# Altium schematic symbol library WE-SL3.SchLib: 5 symbols
Pins are listed as number, name and electrical type; pins without a type are passive.

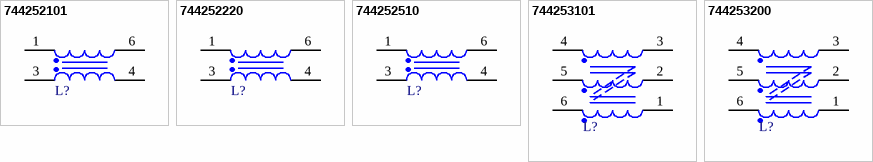
[diagram p0: symbols 744252101 to 744253200]

## 744252101
designator L?, comment 100uH  (value not drawn)
WE-SL3 SMT Common Mode Line Filter, 100uH, 0.5A, 0.28Ohm; Manufacturer: Wurth Elektronik; Manufacturer Part Number: 744252101; Impedance Max: 5000Ohm; Number of Windings: 2; Rated Voltage: 80V; Winding Style: bifilar; ComponentLink1Description: Manufacturer Link; ComponentLink1URL: https://www.we-online.com/redexpert/article/744252101?ad; ComponentLink2Description: Datasheet; ComponentLink2URL: https://www.we-online.com/redexpert/spec/744252101?ad; Category: Common Mode Chokes; Match Code: WE-SL3; Mount: Surface Mount; Operating Temperature Max: 125°C; Operating Temperature Min: -40°C; Packaging: Tape and Reel; Length: 9.2mm; Width: 6.6mm; Height: 2.5mm; DC Resistance Max: 0.28Ohm; Inductance: 100uH; Rated Current: 0.5A
footprint WE-SL3 - 2 Windings
pins: 1, 3, 4, 6

## 744252220
designator L?, comment 22uH  (value not drawn)
WE-SL3 SMT Common Mode Line Filter, 22uH, 0.7A, 0.14Ohm; Manufacturer: Wurth Elektronik; Manufacturer Part Number: 744252220; Impedance Max: 1600Ohm; Number of Windings: 2; Rated Voltage: 80V; Winding Style: bifilar; ComponentLink1Description: Manufacturer Link; ComponentLink1URL: https://www.we-online.com/redexpert/article/744252220?ad; ComponentLink2Description: Datasheet; ComponentLink2URL: https://www.we-online.com/redexpert/spec/744252220?ad; Category: Common Mode Chokes; Match Code: WE-SL3; Mount: Surface Mount; Operating Temperature Max: 125°C; Operating Temperature Min: -40°C; Packaging: Tape and Reel; Length: 9.2mm; Width: 6.6mm; Height: 2.5mm; DC Resistance Max: 0.14Ohm; Inductance: 22uH; Rated Current: 0.7A
footprint WE-SL3 - 2 Windings
pins: 1, 3, 4, 6

## 744252510
designator L?, comment 51uH  (value not drawn)
WE-SL3 SMT Common Mode Line Filter, 51uH, 0.5A, 0.25Ohm; Manufacturer: Wurth Elektronik; Manufacturer Part Number: 744252510; Impedance Max: 3300Ohm; Number of Windings: 2; Rated Voltage: 80V; Winding Style: bifilar; ComponentLink1Description: Manufacturer Link; ComponentLink1URL: https://www.we-online.com/redexpert/article/744252510?ad; ComponentLink2Description: Datasheet; ComponentLink2URL: https://www.we-online.com/redexpert/spec/744252510?ad; Category: Common Mode Chokes; Match Code: WE-SL3; Mount: Surface Mount; Operating Temperature Max: 125°C; Operating Temperature Min: -40°C; Packaging: Tape and Reel; Length: 9.2mm; Width: 6.6mm; Height: 2.5mm; DC Resistance Max: 0.25Ohm; Inductance: 51uH; Rated Current: 0.5A
footprint WE-SL3 - 2 Windings
pins: 1, 3, 4, 6

## 744253101
designator L?, comment 100uH  (value not drawn)
WE-SL3 SMT Common Mode Line Filter, 100uH, 0.45A, 0.45Ohm; Manufacturer: Wurth Elektronik; Manufacturer Part Number: 744253101; Impedance Max: 5000Ohm; Number of Windings: 3; Rated Voltage: 80V; Winding Style: trifilar; ComponentLink1Description: Manufacturer Link; ComponentLink1URL: https://www.we-online.com/redexpert/article/744253101?ad; ComponentLink2Description: Datasheet; ComponentLink2URL: https://www.we-online.com/redexpert/spec/744253101?ad; Category: Common Mode Chokes; Match Code: WE-SL3; Mount: Surface Mount; Operating Temperature Max: 125°C; Operating Temperature Min: -40°C; Packaging: Tape and Reel; Length: 9.2mm; Width: 6.6mm; Height: 2.5mm; DC Resistance Max: 0.45Ohm; Inductance: 100uH; Rated Current: 0.45A
footprint WE-SL3 - 3 Windings
pins: 1, 2, 3, 4, 5, 6

## 744253200
designator L?, comment 20uH  (value not drawn)
WE-SL3 SMT Common Mode Line Filter, 20uH, 0.5A, 0.16Ohm; Manufacturer: Wurth Elektronik; Manufacturer Part Number: 744253200; Impedance Max: 1250Ohm; Number of Windings: 3; Rated Voltage: 80V; Winding Style: trifilar; ComponentLink1Description: Manufacturer Link; ComponentLink1URL: https://www.we-online.com/redexpert/article/744253200?ad; ComponentLink2Description: Datasheet; ComponentLink2URL: https://www.we-online.com/redexpert/spec/744253200?ad; Category: Common Mode Chokes; Match Code: WE-SL3; Mount: Surface Mount; Operating Temperature Max: 125°C; Operating Temperature Min: -40°C; Packaging: Tape and Reel; Length: 9.2mm; Width: 6.6mm; Height: 2.5mm; DC Resistance Max: 0.16Ohm; Inductance: 20uH; Rated Current: 0.5A
footprint WE-SL3 - 3 Windings
pins: 1, 2, 3, 4, 5, 6